# EAGLE library part 10_R44 - 1821326 (library Pheonix_connectors)
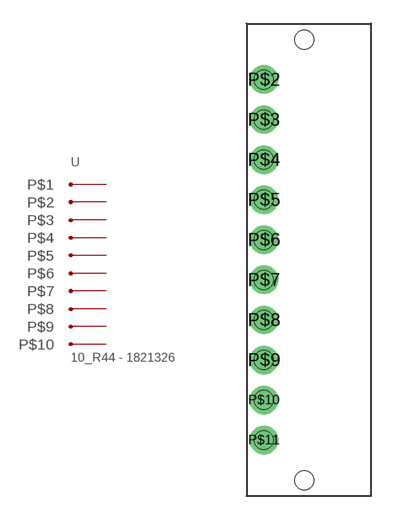
[diagram p0: symbol with the pads of 10_R44 - 1821326; footprint 10_R44 - 1821326]

Designator prefix -

## 10_R44 - 1821326 (PAIR_CON: PN_1821177)  [10_R44 - 1821326]
P$2  P$1
P$3  P$2
P$4  P$3
P$5  P$4
P$6  P$5
P$7  P$6
P$8  P$7
P$9  P$8
P$10  P$9
P$11  P$10

## Footprint 10_R44 - 1821326 (pad centres in mm)
drill 1.2 pad 1.676: P$2 -2.54,25.4; P$3 -2.54,22.86; P$4 -2.54,20.32; P$5 -2.54,17.78; P$6 -2.54,15.24; P$7 -2.54,12.7; P$8 -2.54,10.16; P$9 -2.54,7.62; P$10 -2.54,5.08; P$11 -2.54,2.54
hole 1.2 at -2.54,2.54
hole 1.2 at -2.54,5.08
hole 1.2 at -2.54,7.62
hole 1.2 at -2.54,10.16
hole 1.2 at -2.54,12.7
hole 1.2 at -2.54,15.24
hole 1.2 at -2.54,17.78
hole 1.2 at -2.54,20.32
hole 1.2 at -2.54,22.86
hole 1.2 at -2.54,25.4
hole 1.2 at 0,0
hole 1.2 at 0,27.94